# EAGLE library part DC56-11SRWA (library doz)
������������ ��������� 7-����������
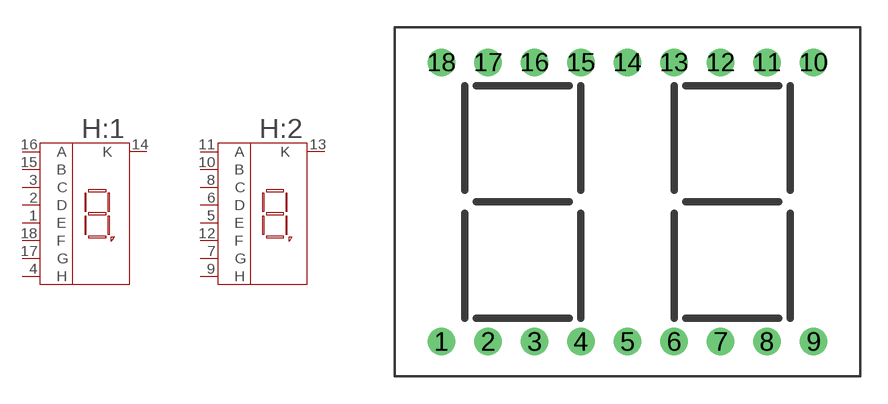
[diagram p12: symbol with the pads of DC56-11; footprint DC56-11]

Designator prefix H; gates :1=DC56-11 :2=DC56-11

## DC56-11SRWA  [DC56-11]
1  :1:E  pas
2  :1:D  pas
3  :1:C  pas
4  :1:H  pas
5  :2:E  pas
6  :2:D  pas
7  :2:G  pas
8  :2:C  pas
9  :2:H  pas
10  :2:B  pas
11  :2:A  pas
12  :2:F  pas
13  :2:K  pas
14  :1:K  pas
15  :1:B  pas
16  :1:A  pas
17  :1:G  pas
18  :1:F  pas

## Footprint DC56-11 (pad centres in mm)
drill 1: 1 -10.16,-7.62; 2 -7.62,-7.62; 3 -5.08,-7.62; 4 -2.54,-7.62; 5 0,-7.62; 6 2.54,-7.62; 7 5.08,-7.62; 8 7.62,-7.62; 9 10.16,-7.62; 10 10.16,7.62; 11 7.62,7.62; 12 5.08,7.62; 13 2.54,7.62; 14 0,7.62; 15 -2.54,7.62; 16 -5.08,7.62; 17 -7.62,7.62; 18 -10.16,7.62